# EAGLE library part TJA1042 (library comma.ai)
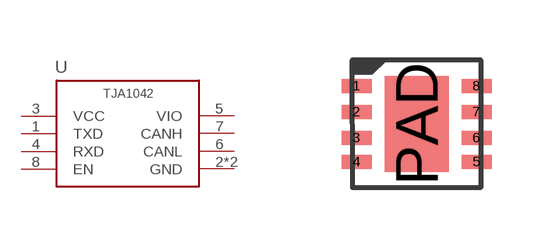
[diagram p24: symbol with the pads of HVSON8; footprint HVSON8]

Designator prefix U

## TJA1042HVSON  [HVSON8]
1  TXD
2  GND
3  VCC
4  RXD
5  VIO
6  CANL
7  CANH
8  EN
PAD  GND

## Footprint HVSON8 (pad centres in mm)
smd 0.75 x 0.35: 1 -1.5,0.95; 2 -1.5,0.3; 3 -1.5,-0.35; 4 -1.5,-0.95; 5 1.5,-0.95; 6 1.5,-0.35; 7 1.5,0.3; 8 1.5,0.95
smd 1.6 x 2.4: PAD 0,0